# Altium schematic symbol library SCH - VCO - ANALOG DEVICES MAX262x.SchLib: 1 symbol
Pins are listed as number, name and electrical type; pins without a type are passive.

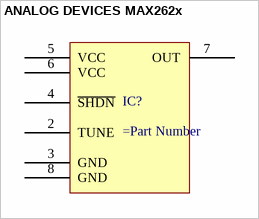
[diagram p0: symbol ANALOG DEVICES MAX262x]

## ANALOG DEVICES MAX262x
designator IC?
pins: 2 TUNE, 3 GND, 4 ~{SHDN}, 5 VCC, 6 VCC, 7 OUT, 8 GND